# Altium footprint library Res_Yageo_RC0805FR-078K06L_eec_IPC_C.PcbLib: 1 footprints
Each footprint in its own frame and in the unit in brackets; x right, y up, seen from the top. Pads: shape width x height; smd on the part's side, far side on the other; paste and mask are expansions set on the pad; w line width, h text height; cw(c..) or ccw(c..) is an arc to the next point about the centre after c.
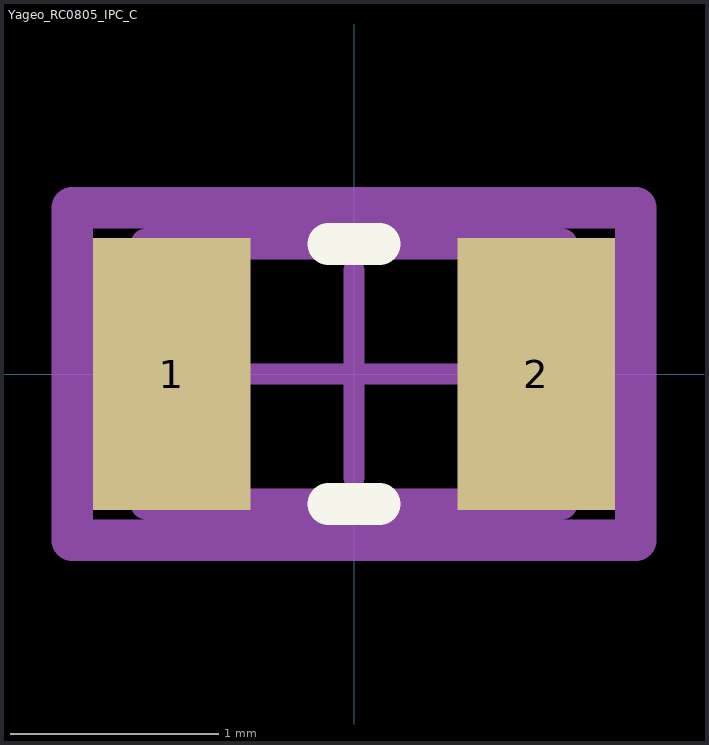
[diagram p0: the footprint, top view; thin cyan lines are the x and y axes]

## Yageo_RC0805_IPC_C [mm]
pads (2):
  rect 0.757x1.308 smd paste+0 mask+0: 1(-0.876,0) 2(0.876,0)
Top Overlay:
  lines w0.2: -0.123,-0.625 0.123,-0.625 ; -0.123,0.625 0.123,0.625
Mechanical 10:
  lines w0.2: -1.354,-0.8 1.354,-0.8 1.354,0.8 -1.354,0.8 -1.354,-0.8
  text ".Designator" at 0,0 h1
Mechanical 12:
  lines w0.15: -1,-0.625 1,-0.625 1,0.625 -1,0.625 -1,-0.625
Mechanical 15:
  lines w0.1: -0.5,0 0.5,0 ; 0,-0.5 0,0.5
  lines w0.2: -1.354,-0.8 1.354,-0.8 1.354,0.8 -1.354,0.8 -1.354,-0.8
3D body "Res_Yageo_RC0805FR-078K06L_eec.STEP": height 0.25, standoff 0, extent -1.354,-0.8 1.354,0.8